# EAGLE library part TPS652510 (library My_TI)
TPS652510 4.5-V TO 16-V INPUT, HIGH CURRENT, SYNCHRONOUS STEP DOWN THREE DC-DC CONVERTERS WITH INTEGRATED FET Continuous Loading: 3 A (Buck1), 2 A (Buck2 and 3) Synchronous Operation, 300-kHz – 2.2-MHz. Switching Frequency Set By External Resistor Datasheet <http://www.ti.com/lit/ds/symlink/tps652510.pdf>
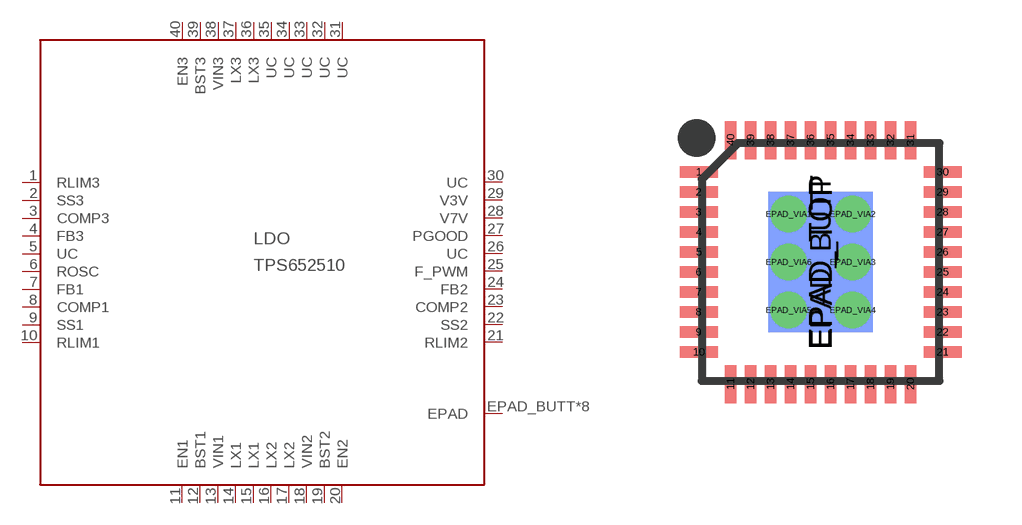
[diagram p23: symbol with the pads of PVQFN-40; footprint PVQFN-40]

Designator prefix LDO

## TPS652510  [PVQFN-40]
1  RLIM3  in
2  SS3  in
3  COMP3  out
4  FB3  in
5  UC
6  ROSC  in
7  FB1  in
8  COMP1  out
9  SS1  in
10  RLIM1  in
11  EN1  in
12  BST1
13  VIN1  in
14  LX1  out
15  LX1  out
16  LX2  out
17  LX2  out
18  VIN2  in
19  BST2
20  EN2  in
21  RLIM2  in
22  SS2  in
23  COMP2  out
24  FB2  in
25  F_PWM
26  UC
27  PGOOD  out
28  V7V  out
29  V3V  out
30  UC
31  UC
32  UC
33  UC
34  UC
35  UC
36  LX3  out
37  LX3  out
38  VIN3  in
39  BST3  in
40  EN3  in
EPAD_BUTT  EPAD  in
EPAD_TOP  EPAD  in
EPAD_VIA1  EPAD  in
EPAD_VIA2  EPAD  in
EPAD_VIA3  EPAD  in
EPAD_VIA4  EPAD  in
EPAD_VIA5  EPAD  in
EPAD_VIA6  EPAD  in

## Footprint PVQFN-40 (pad centres in mm)
PVQFN-40 Auto generated by make-symbol-device-package-bsdl.ulp Rev. 44
smd 0.95 x 0.28: 1 -3.05,2.25; 2 -3.05,1.75; 3 -3.05,1.25; 4 -3.05,0.75; 5 -3.05,0.25; 6 -3.05,-0.25; 7 -3.05,-0.75; 8 -3.05,-1.25; 9 -3.05,-1.75; 10 -3.05,-2.25; 21 3.05,-2.25; 22 3.05,-1.75; 23 3.05,-1.25; 24 3.05,-0.75; 25 3.05,-0.25; 26 3.05,0.25; 27 3.05,0.75; 28 3.05,1.25; 29 3.05,1.75; 30 3.05,2.25
smd 0.28 x 0.95: 11 -2.25,-3.05; 12 -1.75,-3.05; 13 -1.25,-3.05; 14 -0.75,-3.05; 15 -0.25,-3.05; 16 0.25,-3.05; 17 0.75,-3.05; 18 1.25,-3.05; 19 1.75,-3.05; 20 2.25,-3.05; 31 2.25,3.05; 32 1.75,3.05; 33 1.25,3.05; 34 0.75,3.05; 35 0.25,3.05; 36 -0.25,3.05; 37 -0.75,3.05; 38 -1.25,3.05; 39 -1.75,3.05; 40 -2.25,3.05
smd 2.62 x 3.52 bottom: EPAD_BUTT 0,0
smd 2.62 x 3.52: EPAD_TOP 0,0
drill 0.4: EPAD_VIA1 -0.8,1.2; EPAD_VIA2 0.8,1.2; EPAD_VIA3 0.8,0; EPAD_VIA4 0.8,-1.2; EPAD_VIA5 -0.8,-1.2; EPAD_VIA6 -0.8,0